# EAGLE library part 2X3_TO_DAC (library myFab)
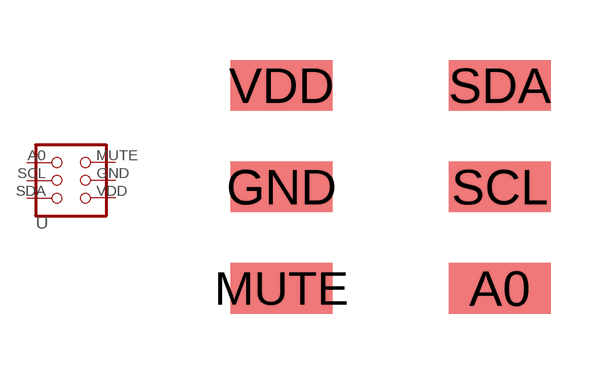
[diagram p21: symbol with the pads of 2X3_TO_DAC; footprint 2X3_TO_DAC]

Designator prefix -

## 2X3_TO_DAC  [2X3_TO_DAC]
A0  A0  pas
GND  GND  pas
MUTE  MUTE  pas
SCL  SCL  pas
SDA  SDA  pas
VDD  VDD  pas

## Footprint 2X3_TO_DAC (pad centres in mm)
smd 2.54 x 1.27: A0 2.731,-5.779; GND -2.729,-3.239; MUTE -2.729,-5.779; SCL 2.731,-3.239; SDA 2.731,-0.699; VDD -2.729,-0.699